# EAGLE library part MAX3227EIDB (library lib_stankus)
TI MAX3227EIDB RS232 transceiver Farnell #1494915
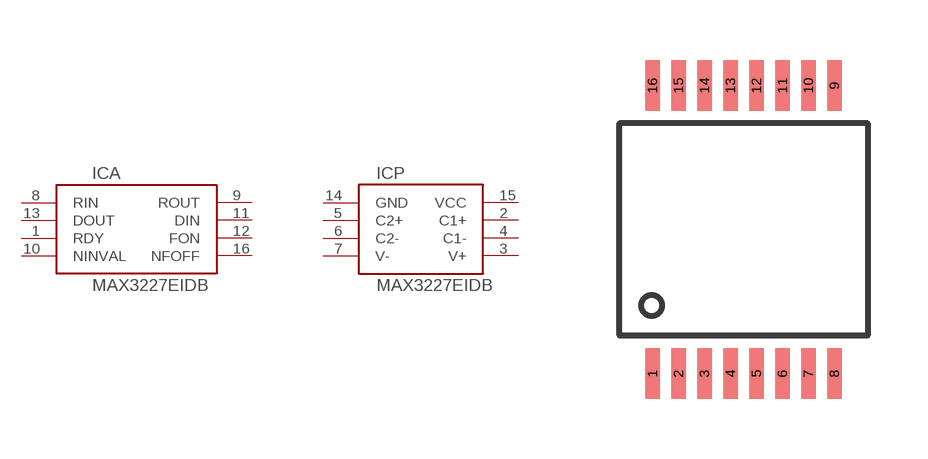
[diagram p10: symbol with the pads of SSOP16; footprint SSOP16]

Designator prefix IC; gates A=MAX3227EIDB_IO P=MAX3227EIDB_PWR

## MAX3227EIDB-SSOP16  [SSOP16]
1  A:RDY  pas
2  P:C1+  pas
3  P:V+  pas
4  P:C1-  pas
5  P:C2+  pas
6  P:C2-  pas
7  P:V-  pas
8  A:RIN  pas
9  A:ROUT  pas
10  A:NINVAL  pas
11  A:DIN  pas
12  A:FON  pas
13  A:DOUT  pas
14  P:GND  pas
15  P:VCC  pas
16  A:NFOFF  pas

## Footprint SSOP16 (pad centres in mm)
SSOP16
smd 0.356 x 1.27: 1 -2.275,-3.6; 2 -1.625,-3.6; 3 -0.975,-3.6; 4 -0.325,-3.6; 5 0.325,-3.6; 6 0.975,-3.6; 7 1.625,-3.6; 8 2.275,-3.6; 9 2.275,3.6; 10 1.625,3.6; 11 0.975,3.6; 12 0.325,3.6; 13 -0.325,3.6; 14 -0.975,3.6; 15 -1.625,3.6; 16 -2.275,3.6